# Altium footprint library 电感.PcbLib: 49 footprints (part 3 of 4)
Each footprint in its own frame and in the unit in brackets; x right, y up, seen from the top. Pads: shape width x height; smd on the part's side, far side on the other; paste and mask are expansions set on the pad; w line width, h text height; cw(c..) or ccw(c..) is an arc to the next point about the centre after c.
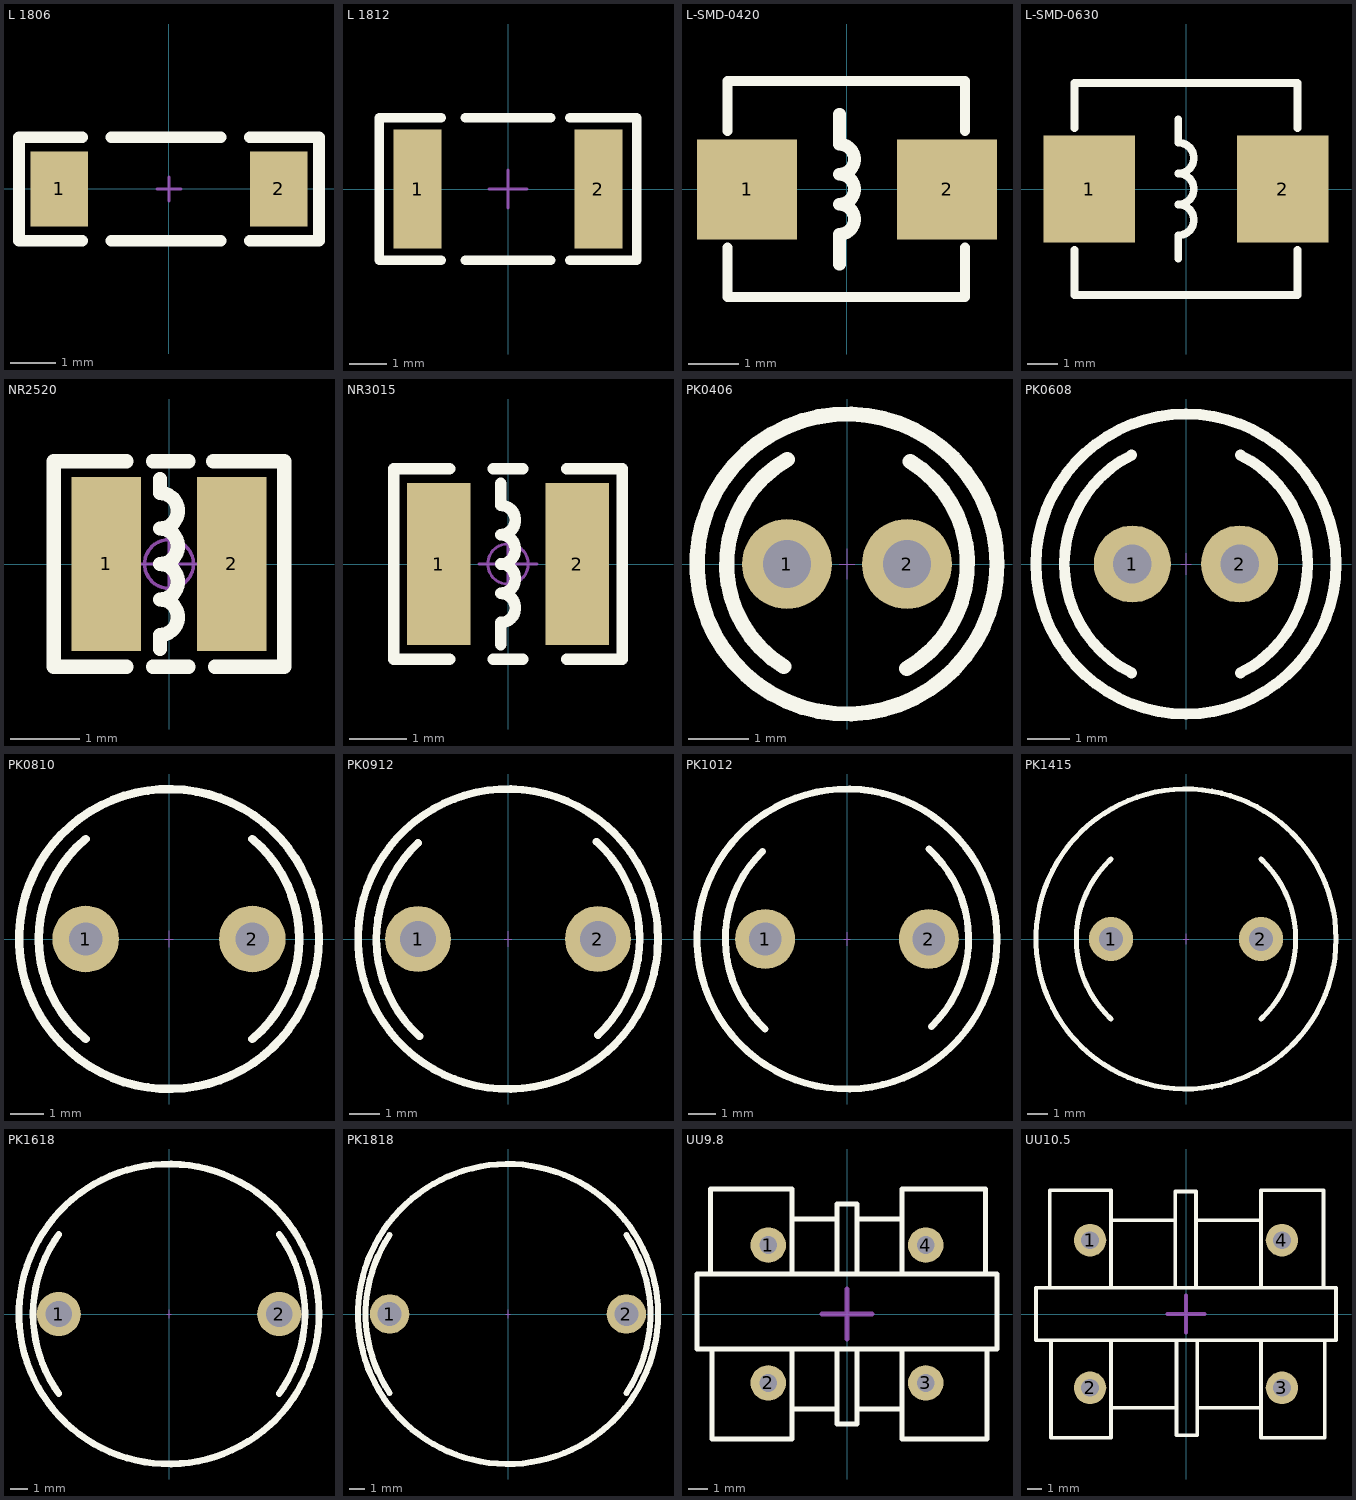
[diagram p2: the footprints below, top view; thin cyan lines are the x and y axes]

## L 1806 [mil] "小功率贴片电感"
pads (2):
  rect 50x65 smd: 1(-95,0) 2(95,0)
Top Overlay:
  lines w10: -75,-45 -130,-45 -130,45 -75,45 ; -50,-45 45,-45 ; -50,45 45,45 ; 70,-45 130,-45 130,-40 130,-15 130,45 70,45
Mechanical 15:
  lines w3: -10,0 10,0 ; 0,-10 0,10
3D body "1806.STEP": height 62.99, standoff -0.19, extent -88.58,-31.5 88.58,31.5

## L 1812 [mil] "小功率贴片电感"
pads (2):
  rect 50x125 smd: 1(-95,0) 2(95,0)
Top Overlay:
  lines w10: -70,-75 -135,-75 -135,75 -70,75 ; -45,-75 45,-75 ; -45,75 45,75 ; 65,-75 135,-75 135,75 65,75
Mechanical 15:
  lines w3: -20,0 20,0 ; 0,-20 0,20
3D body "1812.STEP": height 59.06, standoff -0.19, extent -88.58,-62.99 88.58,62.99

## L-SMD-0420 [mm] "一体化成型电感 4*4.5*2mm（长宽高）"
height 8
pads (2):
  rect 2x2 smd: 1(-2,0) 2(2,0)
Top Overlay:
  lines w0.2: -2.388,-1.168 -2.388,-2.159 2.362,-2.159 2.362,-1.168 ; -2.388,1.168 -2.388,2.17 2.362,2.17 2.362,1.168
  lines w0.254: -0.15,-1.5 -0.15,-0.9 ccw(c-0.15,-0.6) -0.15,-0.3 ccw(c-0.15,0) -0.15,0.3 ccw(c-0.15,0.6) -0.15,0.9 -0.15,1.5
3D body "User Library-0420CDMCB_DS.STEP": height 1.91, standoff -0.01, extent -2.265,-2.057 2.235,2.043

## L-SMD-0630 [mm] "一体化成型电感"
pads (2):
  rect 3x3.5 smd: 1(-3.175,0) 2(3.175,0)
Top Overlay:
  lines w0.254: -3.658,-2.007 -3.658,-3.48 3.658,-3.48 3.658,-2.007 ; -3.658,2.007 -3.658,3.48 3.658,3.48 3.658,2.007 ; -0.254,-2.286 -0.254,-1.524 ccw(c-0.254,-1.016) -0.254,-0.508 ccw(c-0.254,0) -0.254,0.508 ccw(c-0.254,1.016) -0.254,1.524 -0.254,2.286
3D body "SMD-0630.STEP": height 3.05, standoff 0.02, extent -3.475,-3.3 3.475,3.3

## NR2520 [mm] "2.5mm*2.0mm*1.2mm(长*宽*高）"
pads (2):
  rect 1x2.5 smd: 1(-0.9,0) 2(0.9,0)
Top Overlay:
  lines w0.203: -0.61,-1.473 -1.651,-1.473 -1.651,1.473 -0.61,1.473 ; -0.229,-1.473 0.279,-1.473 ; -0.229,1.473 0.279,1.473 ; -0.127,-1.219 -0.127,-1.016 ccw(c-0.127,-0.762) -0.127,-0.508 ccw(c-0.127,-0.254) -0.127,0 ccw(c-0.127,0.254) -0.127,0.508 ccw(c-0.127,0.762) -0.127,1.016 -0.127,1.219 ; 0.635,1.473 1.651,1.473 1.651,-1.473 0.66,-1.473
Mechanical 15:
  circle w0.05: c0,0 r0.35
  lines w0.05: -0.5,0 0.5,0 ; 0,-0.5 0,0.5
3D body "User Library-INDM2520X190N.STEP": height 1.8, standoff 0, extent -1.25,-0.965 1.25,1.035

## NR3015 [mm] "3mm*3mm*1.5mm(长*宽*高）"
pads (2):
  rect 1.1x2.8 smd: 1(-1.2,0) 2(1.2,0)
Top Overlay:
  lines w0.203: -1.016,-1.651 -1.981,-1.651 -1.981,1.651 -1.016,1.651 ; -0.254,-1.651 0.254,-1.651 ; -0.254,1.651 0.254,1.651 ; -0.127,-1.397 -0.127,-1.016 ccw(c-0.127,-0.762) -0.127,-0.508 ccw(c-0.127,-0.254) -0.127,0 ccw(c-0.127,0.254) -0.127,0.508 ccw(c-0.127,0.762) -0.127,1.016 -0.127,1.397 ; 1.016,-1.651 1.981,-1.651 1.981,1.651 1.016,1.651
Mechanical 15:
  circle w0.05: c0,0 r0.35
  lines w0.05: -0.5,0 0.5,0 ; 0,-0.5 0,0.5
3D body "NR3015.STEP": height 1.45, standoff 0.05, extent -1.5,-1.5 1.5,1.5

## PK0406 [mm] "2*5*8mm(脚距，直径，高）"
pads (2):
  round 1.5 hole 0.8: 1(-1,0) 2(1,0)
Top Overlay:
  circle w0.254: c0,0 r2.5
  lines w0.254: -1.052,-1.71 cw(c0,0) -0.996,1.743 ; 0.996,-1.743 ccw(c0,0) 1.052,1.71
Mechanical 15:
  lines w0.01: -0.127,0 0.127,0 ; 0,-0.254 0,0.254
3D body "PK0406.STEP": height 8.02, standoff -2.78, extent -2.5,-2.5 2.5,2.5

## PK0608 [mm] "2.5*7*10mm(脚距，直径，高）"
pads (2):
  round 1.8 hole 0.9: 1(-1.25,0) 2(1.25,0)
Top Overlay:
  circle w0.254: c0,0 r3.5
  lines w0.254: -1.27,-2.54 cw(c0,0) -1.27,2.54 ; 1.27,-2.54 ccw(c0,0) 1.27,2.54
Mechanical 15:
  lines w0.01: -0.127,0 0.127,0 ; 0,-0.254 0,0.254
3D body "PK0608.STEP": height 10.02, standoff -2.78, extent -3.5,-3.5 3.5,3.5

## PK0810 [mm] "5*9*12mm(脚距，直径，高）"
pads (2):
  round 2 hole 1: 1(-2.5,0) 2(2.5,0)
Top Overlay:
  circle w0.254: c0,0 r4.5
  lines w0.254: -2.5,-3 cw(c0,0) -2.5,3 ; 2.5,-3 ccw(c0,0) 2.5,3
Mechanical 15:
  lines w0.01: -0.127,0 0.127,0 ; 0,-0.254 0,0.254
3D body "PK0810.STEP": height 12.02, standoff -2.78, extent -4.5,-4.5 4.5,4.5

## PK0912 [mm] "6*10*14mm(脚距，直径，高）"
pads (2):
  round 2.2 hole 1.2: 1(-3,0) 2(3,0)
Top Overlay:
  circle w0.254: c0,0 r5
  lines w0.254: -3,3.2 ccw(c0,0) -2.951,-3.246 ; 2.951,3.246 cw(c0,0) 3,-3.2
Mechanical 15:
  lines w0.01: -0.127,0 0.127,0 ; 0,-0.254 0,0.254
3D body "PK0912.STEP": height 14.02, standoff -2.78, extent -5,-5 5,5

## PK1012 [mm] "6*11*14mm(脚距，直径，高）"
pads (2):
  round 2.2 hole 1.2: 1(-3,0) 2(3,0)
Top Overlay:
  circle w0.254: c0,0 r5.5
  lines w0.254: -3.101,3.205 ccw(c0,0) -3,-3.3 ; 3,3.3 cw(c0,0) 3.101,-3.205
Mechanical 15:
  lines w0.01: -0.127,0 0.127,0 ; 0,-0.254 0,0.254
3D body "PK1012.STEP": height 14.02, standoff -2.78, extent -5.5,-5.5 5.5,5.5

## PK1415 [mm] "7.5*15*17mm(脚距，直径，高）"
pads (2):
  round 2.2 hole 1.2: 1(-3.75,0) 2(3.75,0)
Top Overlay:
  circle w0.254: c0,0 r7.5
  lines w0.254: -3.75,-4 cw(c0,0) -3.75,4 ; 3.75,-4 ccw(c0,0) 3.75,4
Mechanical 15:
  lines w0.01: -0.127,0 0.127,0 ; 0,-0.254 0,0.254
3D body "PK1415.STEP": height 17.02, standoff -2.78, extent -7.5,-7.5 7.5,7.5

## PK1618 [mm] "12.5*17*20mm(脚距，直径，高）"
pads (2):
  round 2.5 hole 1.5: 1(-6.25,0) 2(6.25,0)
Top Overlay:
  circle w0.381: c0,0 r8.5
  lines w0.381: -6.25,-4.5 cw(c0,0) -6.25,4.5 ; 6.25,-4.5 ccw(c0,0) 6.25,4.5
Mechanical 15:
  lines w0.01: -0.127,0 0.127,0 ; 0,-0.254 0,0.254
3D body "PK1618.STEP": height 20.02, standoff -2.78, extent -8.5,-8.5 8.5,8.5

## PK1818 [mm] "15*19*20mm(脚距，直径，高）"
pads (2):
  round 2.5 hole 1.5: 1(-7.5,0) 2(7.5,0)
Top Overlay:
  circle w0.381: c0,0 r9.5
  lines w0.381: -7.5,-5 cw(c0,0) -7.5,5 ; 7.5,-5 ccw(c0,0) 7.5,5
Mechanical 15:
  lines w0.01: -0.127,0 0.127,0 ; 0,-0.254 0,0.254
3D body "PK1818.STEP": height 20.02, standoff -2.78, extent -9.5,-9.5 9.5,9.5

## UU9.8 [mm] "17*12*17mm(长宽高）"
pads (4):
  round 1.8 hole 0.9: 1(-4,3.5) 2(-4,-3.5) 3(4,-3.5) 4(4,3.5)
Top Overlay:
  lines w0.254: -6.943,2.032 -6.943,6.35 -2.794,6.35 -2.794,2.032 ; -6.858,-1.778 -6.858,-6.35 -2.794,-6.35 -2.794,-1.778 ; -2.794,-4.826 -0.638,-4.826 ; -2.794,4.826 -0.508,4.826 ; -0.508,-1.778 -0.508,-5.588 0.508,-5.588 0.508,-1.778 ; -0.508,2.032 -0.508,5.588 0.508,5.588 0.508,2.032 ; 0.508,-4.826 2.794,-4.826 ; 0.508,4.826 2.794,4.826 ; 2.794,-1.778 2.794,-6.35 7.112,-6.35 7.112,-1.778 ; 2.794,2.032 2.794,6.35 7.027,6.35 7.027,2.032 ; -7.62,-1.778 -7.62,2.032 7.62,2.032 7.62,-1.778 -7.62,-1.778
Mechanical 15:
  lines w0.254: -1.27,0 1.27,0 ; 0,-1.27 0,1.27
3D body "UU9.8.STEP": height 17.05, standoff -3.45, extent -8.5,-6 8.5,6

## UU10.5 [mm] "18*16*20mm(长宽高）"
pads (4):
  round 2.2 hole 1.2: 1(-6.5,5) 2(-6.5,-5) 3(6.5,-5) 4(6.5,5)
Top Overlay:
  lines w0.254: -9.229,1.904 -9.229,8.382 -5.08,8.382 -5.08,1.904 ; -9.144,-1.81 -9.144,-8.382 -5.08,-8.382 -5.08,-1.81 ; -5.08,-6.35 -0.638,-6.35 ; -5.08,6.35 -0.723,6.35 ; -0.723,1.904 -0.723,8.304 0.677,8.304 0.677,1.904 ; -0.638,-1.81 -0.638,-8.21 0.762,-8.21 0.762,-1.81 ; 0.677,6.35 5.08,6.35 ; 0.762,-6.35 5.08,-6.35 ; 5.08,-1.904 5.08,-8.382 9.398,-8.382 9.398,-1.904 ; 5.08,1.904 5.08,8.382 9.313,8.382 9.313,1.904 ; -10.16,-1.778 -10.16,1.778 10.16,1.778 10.16,-1.778 -10.16,-1.778
Mechanical 15:
  lines w0.254: -1.27,0 1.27,0 ; 0,-1.27 0,1.27
3D body "UU10.5.STEP": height 21.05, standoff -3.45, extent -9.4,-8 9.4,8